# Altium schematic symbol library SCH - CONNECTORS - 4-103327-3.Schlib: 1 symbol
Pins are listed as number, name and electrical type; pins without a type are passive.

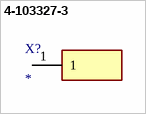
[diagram p0: symbol 4-103327-3]

## 4-103327-3
designator X?
Connector
pins: 1